# Altium footprint library TCM2-63WX&plus_.PcbLib: 1 footprints
Each footprint in its own frame and in the unit in brackets; x right, y up, seen from the top. Pads: shape width x height; smd on the part's side, far side on the other; paste and mask are expansions set on the pad; w line width, h text height; cw(c..) or ccw(c..) is an arc to the next point about the centre after c.
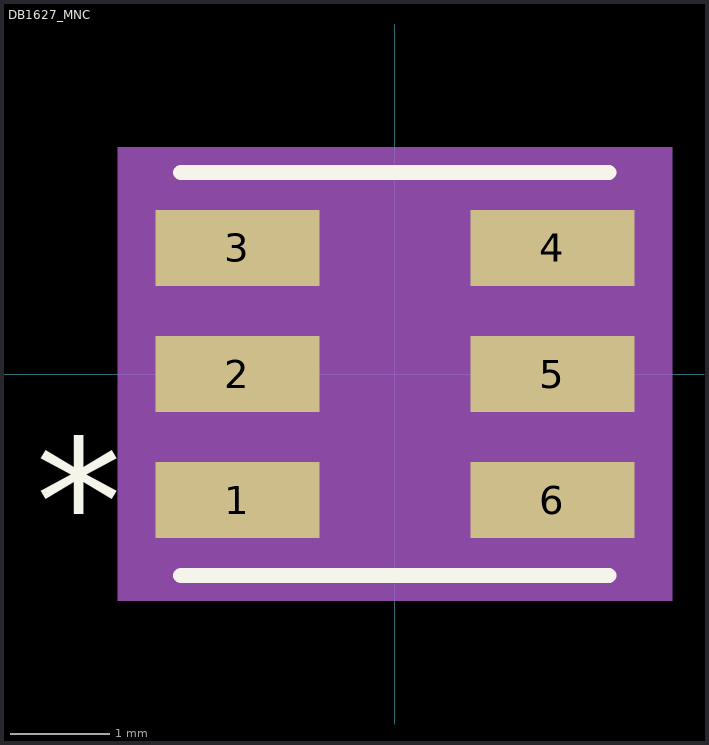
[diagram p0: the footprint, top view; thin cyan lines are the x and y axes]

## DB1627_MNC [mil]
pads (6):
  rect 65x30 smd paste-15 mask+0: 1(-62.5,-50) 2(-62.5,0) 3(-62.5,50) 4(62.5,50) 5(62.5,0) 6(62.5,-50)
Top Overlay:
  lines w6: -85,-80 85,-80 ; -85,80 85,80
  text "*" at -142.5,-75 h50
Bottom Overlay:
  text "*" at -142.5,-75 h50
Mechanical 5:
  region: 110,-90 -110,-90 -110,90 110,90
Mechanical 13:
  circle w0: c-30,50 r0
  lines w0: -12,75 ccw(c0,75) 12,75
  lines w1: -80,-75 80,-75 80,75 -80,75 -80,-75
  text "*" at -142.5,-75 h50
Mechanical 15:
  region: -90,-75 -105,-75 -105,75 -90,75 -90,85 90,85 90,75 105,75 105,-75 90,-75 90,-85 -90,-85
  lines w6: -105,-75 -105,75 -90,75 -90,85 90,85 90,75 105,75 105,-75 90,-75 90,-85 -90,-85 -90,-75 -105,-75
3D body: height 10, standoff 0, extent 0,0 10,10